# Altium integrated library lib_alps.IntLib: 1 symbol
Pins are listed as number, name and electrical type; pins without a type are passive.

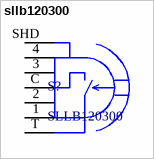
[diagram p0: symbol sllb120300]

## sllb120300
designator S?, comment SLLB120300
Compact and low-profile horizontal type for various applications; ComponentLink1Description: datasheet; ComponentLink1URL: https://www.mouser.se/datasheet/2/15/SLLB-1370969.pdf
footprint sllb120300
pins: 1, 2, 3, 4, C, SHD, T